# Altium footprint library SMP_10-50-1.PcbLib: 1 footprints
Each footprint in its own frame and in the unit in brackets; x right, y up, seen from the top. Pads: shape width x height; smd on the part's side, far side on the other; paste and mask are expansions set on the pad; w line width, h text height; cw(c..) or ccw(c..) is an arc to the next point about the centre after c.
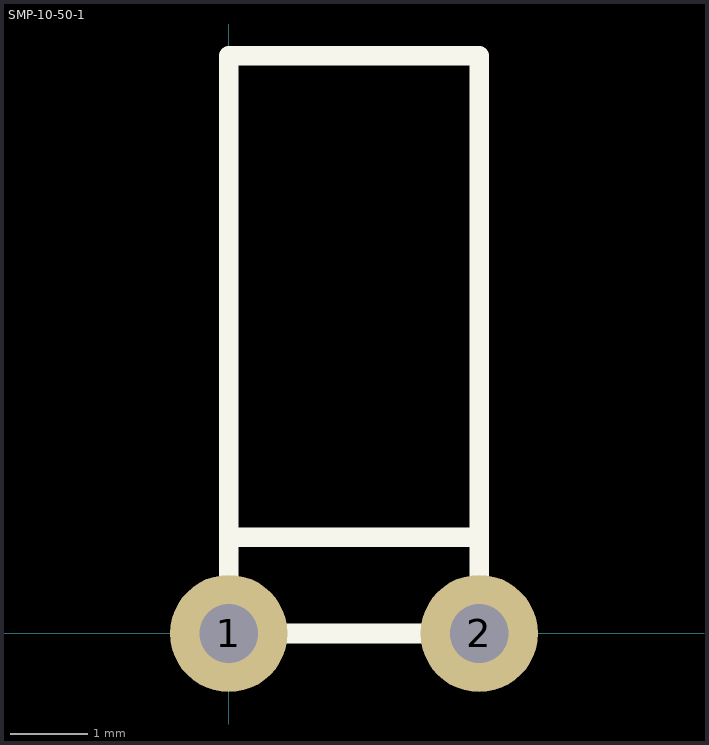
[diagram p0: the footprint, top view; thin cyan lines are the x and y axes]

## SMP-10-50-1 [mil] "Filament bulb"
height 125.98
pads (2):
  round 60 hole 30: 1(0,0) 2(127.95,0)
Top Overlay:
  lines w10: 0,49.21 127.95,49.21 ; 0,0 0,295.28 127.95,295.28 127.95,0 0,0
Mechanical 15:
  text "'.Designator'" at 88.35,6.13 h59.06
3D body: height 117.64, standoff 0, extent 5.04,47.24 122.91,283.46
3D body: height 66.92, standoff 59.06, extent 59.79,67.27 67.63,264.12